# Altium schematic symbol library LTC2950.SchLib: 1 symbol
Pins are listed as number, name and electrical type; pins without a type are passive.

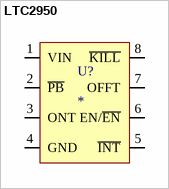
[diagram p0: symbol LTC2950]

## LTC2950
designator U?
Part No.: LTC2950; Vendor: Linear Technology; Manufacturer: Linear Technology; Price Est.: $2.59
footprint TSOT-23 (TS8) (Linear TS8 8-Lead TSOT-23 (Based on LTC2950))
pins: 1 VIN, 2 ~{PB}, 3 ONT, 4 GND, 5 ~{INT}, 6 EN/~{EN}, 7 OFFT, 8 ~{KILL}